# Altium schematic symbol library cap_1210.SchLib: 1 symbol
Pins are listed as number, name and electrical type; pins without a type are passive.

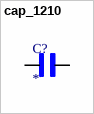
[diagram p0: symbol cap_1210]

## cap_1210
designator C?
CAPACITOR, X7T, 33NF; Capacitance:33000pF; Capacitance Tolerance:Â± 10%; Dielectric Characteristic:X7T; Voltage Rating:630V; Capacitor Case Style:1210 [3225 Metric]; Operating Temperature Min:-55Â°C; Operating Temperature Max:125Â°C; Packaging:Cut Tape; SVHC:No SVHC (19-Dec-2012); Capacitor Terminals:SMD; Operating Temperature Range:-55Â°C to +125Â°C; MF: {'manufacturer': u'Murata Electronics'}; MP: GR332DD72J333KW01L; Package: None; Availability: Unavailable; Value: *; Price: None
footprint CAPC3225X200N
pins: 1, 2